# Altium schematic symbol library Components - 19.07.26 - 00.55.SchLib: 1 symbol
Pins are listed as number, name and electrical type; pins without a type are passive.

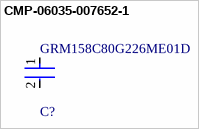
[diagram p0: symbol CMP-06035-007652-1]

## CMP-06035-007652-1
designator C?, comment GRM158C80G226ME01D
Chip Multilayer Ceramic Capacitors for General Purpose, 0402, 22uF, X6S, 22%, 20%, 4V
footprint FP-GRM158-0_2-IPC_A
footprint FP-GRM158-0_2-IPC_C
footprint FP-GRM158-0_2-IPC_B
footprint FP-GRM158-0_2-MFG
pins: 1, 2